# EAGLE library part IR2104 (library mestrado)
Half Bridge mosfet - IGBT driver
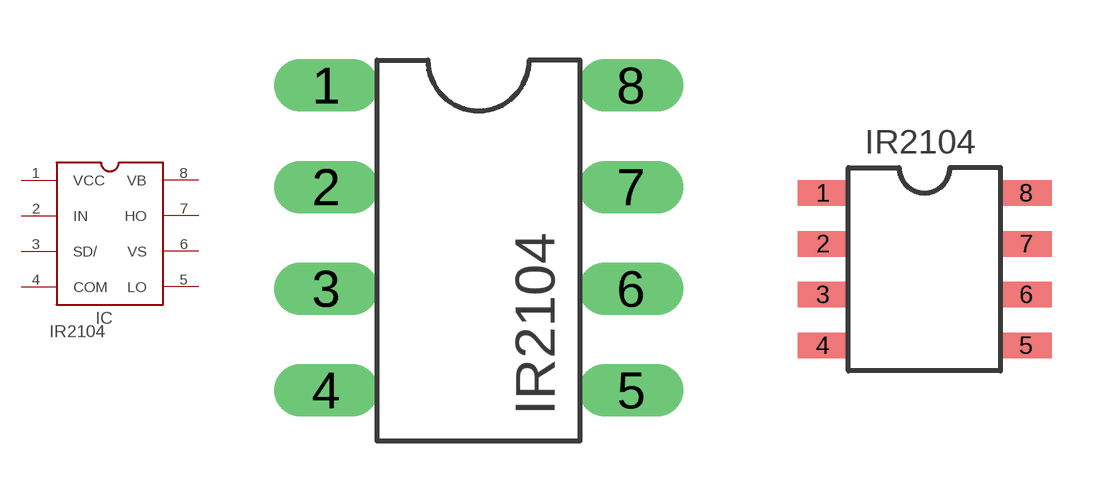
[diagram p4: symbol with the pads of PDIP8; footprints PDIP8, SOIC8]

Designator prefix IC

## IR2104  [PDIP8]
1  VCC  pwr
2  IN
3  SD/
4  COM
5  LO
6  VS  pwr
7  HO
8  VB  pwr

## IR2104S  [SOIC8]
Pads as for PDIP8

## Footprint PDIP8 (pad centres in mm)
drill 0.8 long: 1 -3.683,4.572; 2 -3.683,2.032; 3 -3.683,-0.508; 4 -3.683,-3.048; 5 3.937,-3.048; 6 3.937,-0.508; 7 3.937,2.032; 8 3.937,4.572

## Footprint SOIC8 (pad centres in mm)
Half Bridge MosfetIGBT driver (SOIC)
smd 1.27 x 0.635: 1 -2.54,2.54; 2 -2.54,1.27; 3 -2.54,0; 4 -2.54,-1.27; 5 2.54,-1.27; 6 2.54,0; 7 2.54,1.27; 8 2.54,2.54